# Altium schematic symbol library 691 321 300 0xx.SchLib: 23 symbols
Pins are listed as number, name and electrical type; pins without a type are passive.

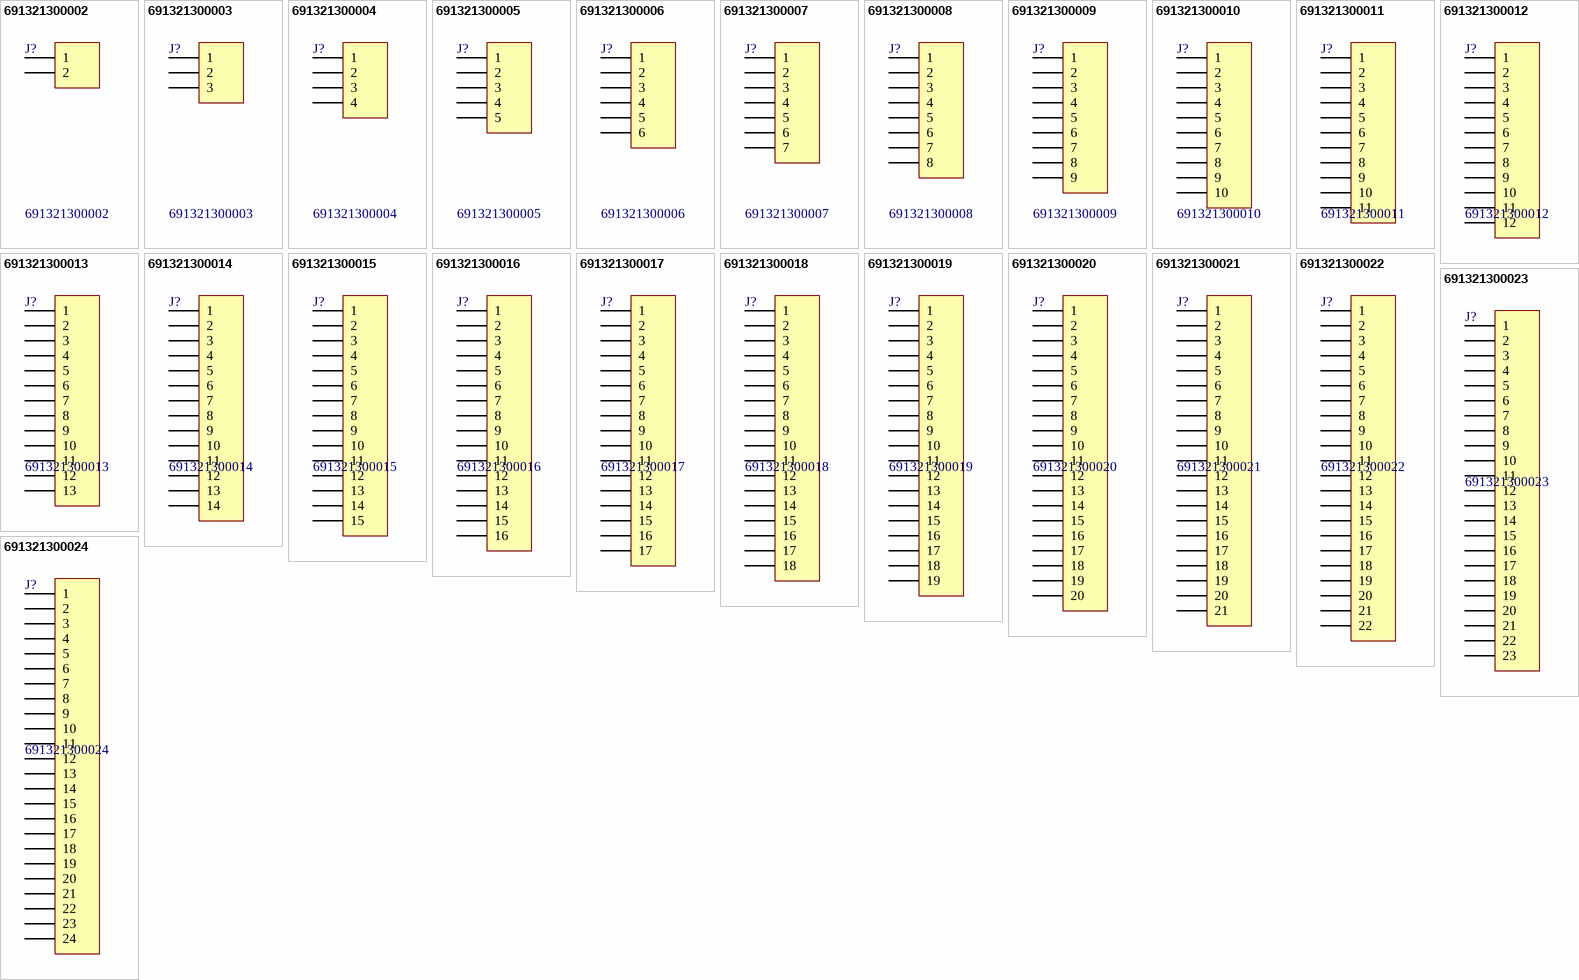
[diagram p0: symbols 691321300002 to 691321300024]

## 691321300002
designator J?
WR-TBL Terminal block - serie 3213- 3.81 mm; Manufacturer: Würth Elektronik eiSos GmbH; ComponentLink1 Description: Manufacturer; ComponentLink2 Description: Datasheet; NoPins: 2; Created Date: 11 December 2013; partNo: 691321300002; ComponentLink1URL: http://www.we-online.com; ComponentLink2URL: http://katalog.we-online.de/em/datasheet/6913213000xx.pdf; Created by: Karrer Zheng
footprint 691321300002 (3,81mm - PCB Headers - Vertical - 02p)
pins: 1, 2

## 691321300003
designator J?
WR-TBL Terminal block - serie 3213- 3.81 mm; Manufacturer: Würth Elektronik eiSos GmbH; ComponentLink1 Description: Manufacturer; ComponentLink2 Description: Datasheet; NoPins: 3; Created Date: 11 December 2013; partNo: 691321300003; ComponentLink1URL: http://www.we-online.com; ComponentLink2URL: http://katalog.we-online.de/em/datasheet/6913213000xx.pdf; Created by: Karrer Zheng
footprint 691321300003 (3,81mm - PCB Headers - Vertical - 03p)
pins: 1, 2, 3

## 691321300004
designator J?
WR-TBL Terminal block - serie 3213- 3.81 mm; Manufacturer: Würth Elektronik eiSos GmbH; ComponentLink1 Description: Manufacturer; ComponentLink2 Description: Datasheet; NoPins: 4; Created Date: 11 December 2013; partNo: 691321300004; ComponentLink1URL: http://www.we-online.com; ComponentLink2URL: http://katalog.we-online.de/em/datasheet/6913213000xx.pdf; Created by: Karrer Zheng
footprint 691321300004 (3,81mm - PCB Headers - Vertical - 04p)
pins: 1, 2, 3, 4

## 691321300005
designator J?
WR-TBL Terminal block - serie 3213- 3.81 mm; Manufacturer: Würth Elektronik eiSos GmbH; ComponentLink1 Description: Manufacturer; ComponentLink2 Description: Datasheet; NoPins: 5; Created Date: 11 December 2013; partNo: 691321300005; ComponentLink1URL: http://www.we-online.com; ComponentLink2URL: http://katalog.we-online.de/em/datasheet/6913213000xx.pdf; Created by: Karrer Zheng
footprint 691321300005 (3,81mm - PCB Headers - Vertical - 05p)
pins: 1, 2, 3, 4, 5

## 691321300006
designator J?
WR-TBL Terminal block - serie 3213- 3.81 mm; Manufacturer: Würth Elektronik eiSos GmbH; ComponentLink1 Description: Manufacturer; ComponentLink2 Description: Datasheet; NoPins: 6; Created Date: 11 December 2013; partNo: 691321300006; ComponentLink1URL: http://www.we-online.com; ComponentLink2URL: http://katalog.we-online.de/em/datasheet/6913213000xx.pdf; Created by: Karrer Zheng
footprint 691321300006 (3,81mm - PCB Headers - Vertical - 06p)
pins: 1, 2, 3, 4, 5, 6

## 691321300007
designator J?
WR-TBL Terminal block - serie 3213- 3.81 mm; Manufacturer: Würth Elektronik eiSos GmbH; ComponentLink1 Description: Manufacturer; ComponentLink2 Description: Datasheet; NoPins: 7; Created Date: 11 December 2013; partNo: 691321300007; ComponentLink1URL: http://www.we-online.com; ComponentLink2URL: http://katalog.we-online.de/em/datasheet/6913213000xx.pdf; Created by: Karrer Zheng
footprint 691321300007 (3,81mm - PCB Headers - Vertical - 07p)
pins: 1, 2, 3, 4, 5, 6, 7

## 691321300008
designator J?
WR-TBL Terminal block - serie 3213- 3.81 mm; Manufacturer: Würth Elektronik eiSos GmbH; ComponentLink1 Description: Manufacturer; ComponentLink2 Description: Datasheet; NoPins: 8; Created Date: 11 December 2013; partNo: 691321300008; ComponentLink1URL: http://www.we-online.com; ComponentLink2URL: http://katalog.we-online.de/em/datasheet/6913213000xx.pdf; Created by: Karrer Zheng
footprint 691321300008 (3,81mm - PCB Headers - Vertical - 08p)
pins: 1, 2, 3, 4, 5, 6, 7, 8

## 691321300009
designator J?
WR-TBL Terminal block - serie 3213- 3.81 mm; Manufacturer: Würth Elektronik eiSos GmbH; ComponentLink1 Description: Manufacturer; ComponentLink2 Description: Datasheet; NoPins: 9; Created Date: 11 December 2013; partNo: 691321300009; ComponentLink1URL: http://www.we-online.com; ComponentLink2URL: http://katalog.we-online.de/em/datasheet/6913213000xx.pdf; Created by: Karrer Zheng
footprint 691321300009 (3,81mm - PCB Headers - Vertical - 09p)
pins: 1, 2, 3, 4, 5, 6, 7, 8, 9

## 691321300010
designator J?
WR-TBL Terminal block - serie 3213- 3.81 mm; Manufacturer: Würth Elektronik eiSos GmbH; ComponentLink1 Description: Manufacturer; ComponentLink2 Description: Datasheet; NoPins: 10; Created Date: 11 December 2013; partNo: 691321300010; ComponentLink1URL: http://www.we-online.com; ComponentLink2URL: http://katalog.we-online.de/em/datasheet/6913213000xx.pdf; Created by: Karrer Zheng
footprint 691321300010 (3,81mm - PCB Headers - Vertical - 10p)
pins: 1, 2, 3, 4, 5, 6, 7, 8, 9, 10

## 691321300011
designator J?
WR-TBL Terminal block - serie 3213- 3.81 mm; Manufacturer: Würth Elektronik eiSos GmbH; ComponentLink1 Description: Manufacturer; ComponentLink2 Description: Datasheet; NoPins: 11; Created Date: 11 December 2013; partNo: 691321300011; ComponentLink1URL: http://www.we-online.com; ComponentLink2URL: http://katalog.we-online.de/em/datasheet/6913213000xx.pdf; Created by: Karrer Zheng
footprint 691321300011 (3,81mm - PCB Headers - Vertical - 11p)
pins: 1, 2, 3, 4, 5, 6, 7, 8, 9, 10, 11

## 691321300012
designator J?
WR-TBL Terminal block - serie 3213- 3.81 mm; Manufacturer: Würth Elektronik eiSos GmbH; ComponentLink1 Description: Manufacturer; ComponentLink2 Description: Datasheet; NoPins: 12; Created Date: 11 December 2013; partNo: 691321300012; ComponentLink1URL: http://www.we-online.com; ComponentLink2URL: http://katalog.we-online.de/em/datasheet/6913213000xx.pdf; Created by: Karrer Zheng
footprint 691321300012 (3,81mm - PCB Headers - Vertical - 12p)
pins: 1, 2, 3, 4, 5, 6, 7, 8, 9, 10, 11, 12

## 691321300013
designator J?
WR-TBL Terminal block - serie 3213- 3.81 mm; Manufacturer: Würth Elektronik eiSos GmbH; ComponentLink1 Description: Manufacturer; ComponentLink2 Description: Datasheet; NoPins: 13; Created Date: 11 December 2013; partNo: 691321300013; ComponentLink1URL: http://www.we-online.com; ComponentLink2URL: http://katalog.we-online.de/em/datasheet/6913213000xx.pdf; Created by: Karrer Zheng
footprint 691321300013 (3,81mm - PCB Headers - Vertical - 13p)
pins: 1, 2, 3, 4, 5, 6, 7, 8, 9, 10, 11, 12, 13

## 691321300014
designator J?
WR-TBL Terminal block - serie 3213- 3.81 mm; Manufacturer: Würth Elektronik eiSos GmbH; ComponentLink1 Description: Manufacturer; ComponentLink2 Description: Datasheet; NoPins: 14; Created Date: 11 December 2013; partNo: 691321300014; ComponentLink1URL: http://www.we-online.com; ComponentLink2URL: http://katalog.we-online.de/em/datasheet/6913213000xx.pdf; Created by: Karrer Zheng
footprint 691321300014 (3,81mm - PCB Headers - Vertical - 14p)
pins: 1, 2, 3, 4, 5, 6, 7, 8, 9, 10, 11, 12, 13, 14

## 691321300015
designator J?
WR-TBL Terminal block - serie 3213- 3.81 mm; Manufacturer: Würth Elektronik eiSos GmbH; ComponentLink1 Description: Manufacturer; ComponentLink2 Description: Datasheet; NoPins: 15; Created Date: 11 December 2013; partNo: 691321300015; ComponentLink1URL: http://www.we-online.com; ComponentLink2URL: http://katalog.we-online.de/em/datasheet/6913213000xx.pdf; Created by: Karrer Zheng
footprint 691321300015 (3,81mm - PCB Headers - Vertical - 15p)
pins: 1, 2, 3, 4, 5, 6, 7, 8, 9, 10, 11, 12, 13, 14, 15

## 691321300016
designator J?
WR-TBL Terminal block - serie 3213- 3.81 mm; Manufacturer: Würth Elektronik eiSos GmbH; ComponentLink1 Description: Manufacturer; ComponentLink2 Description: Datasheet; NoPins: 16; Created Date: 11 December 2013; partNo: 691321300016; ComponentLink1URL: http://www.we-online.com; ComponentLink2URL: http://katalog.we-online.de/em/datasheet/6913213000xx.pdf; Created by: Karrer Zheng
footprint 691321300016 (3,81mm - PCB Headers - Vertical - 16p)
pins: 1, 2, 3, 4, 5, 6, 7, 8, 9, 10, 11, 12, 13, 14, 15, 16

## 691321300017
designator J?
WR-TBL Terminal block - serie 3213- 3.81 mm; Manufacturer: Würth Elektronik eiSos GmbH; ComponentLink1 Description: Manufacturer; ComponentLink2 Description: Datasheet; NoPins: 17; Created Date: 11 December 2013; partNo: 691321300017; ComponentLink1URL: http://www.we-online.com; ComponentLink2URL: http://katalog.we-online.de/em/datasheet/6913213000xx.pdf; Created by: Karrer Zheng
footprint 691321300017 (3,81mm - PCB Headers - Vertical - 17p)
pins: 1, 2, 3, 4, 5, 6, 7, 8, 9, 10, 11, 12, 13, 14, 15, 16, 17

## 691321300018
designator J?
WR-TBL Terminal block - serie 3213- 3.81 mm; Manufacturer: Würth Elektronik eiSos GmbH; ComponentLink1 Description: Manufacturer; ComponentLink2 Description: Datasheet; NoPins: 18; Created Date: 11 December 2013; partNo: 691321300018; ComponentLink1URL: http://www.we-online.com; ComponentLink2URL: http://katalog.we-online.de/em/datasheet/6913213000xx.pdf; Created by: Karrer Zheng
footprint 691321300018 (3,81mm - PCB Headers - Vertical - 18p)
pins: 1, 2, 3, 4, 5, 6, 7, 8, 9, 10, 11, 12, 13, 14, 15, 16, 17, 18

## 691321300019
designator J?
WR-TBL Terminal block - serie 3213- 3.81 mm; Manufacturer: Würth Elektronik eiSos GmbH; ComponentLink1 Description: Manufacturer; ComponentLink2 Description: Datasheet; NoPins: 19; Created Date: 11 December 2013; partNo: 691321300019; ComponentLink1URL: http://www.we-online.com; ComponentLink2URL: http://katalog.we-online.de/em/datasheet/6913213000xx.pdf; Created by: Karrer Zheng
footprint 691321300019 (3,81mm - PCB Headers - Vertical - 19p)
pins: 1, 2, 3, 4, 5, 6, 7, 8, 9, 10, 11, 12, 13, 14, 15, 16, 17, 18, 19

## 691321300020
designator J?
WR-TBL Terminal block - serie 3213- 3.81 mm; Manufacturer: Würth Elektronik eiSos GmbH; ComponentLink1 Description: Manufacturer; ComponentLink2 Description: Datasheet; NoPins: 20; Created Date: 11 December 2013; partNo: 691321300020; ComponentLink1URL: http://www.we-online.com; ComponentLink2URL: http://katalog.we-online.de/em/datasheet/6913213000xx.pdf; Created by: Karrer Zheng
footprint 691321300020 (3,81mm - PCB Headers - Vertical - 20p)
pins: 1, 2, 3, 4, 5, 6, 7, 8, 9, 10, 11, 12, 13, 14, 15, 16, 17, 18, 19, 20

## 691321300021
designator J?
WR-TBL Terminal block - serie 3213- 3.81 mm; Manufacturer: Würth Elektronik eiSos GmbH; ComponentLink1 Description: Manufacturer; ComponentLink2 Description: Datasheet; NoPins: 21; Created Date: 11 December 2013; partNo: 691321300021; ComponentLink1URL: http://www.we-online.com; ComponentLink2URL: http://katalog.we-online.de/em/datasheet/6913213000xx.pdf; Created by: Karrer Zheng
footprint 691321300021 (3,81mm - PCB Headers - Vertical - 21p)
pins: 1, 2, 3, 4, 5, 6, 7, 8, 9, 10, 11, 12, 13, 14, 15, 16, 17, 18, 19, 20, 21

## 691321300022
designator J?
WR-TBL Terminal block - serie 3213- 3.81 mm; Manufacturer: Würth Elektronik eiSos GmbH; ComponentLink1 Description: Manufacturer; ComponentLink2 Description: Datasheet; NoPins: 22; Created Date: 11 December 2013; partNo: 691321300022; ComponentLink1URL: http://www.we-online.com; ComponentLink2URL: http://katalog.we-online.de/em/datasheet/6913213000xx.pdf; Created by: Karrer Zheng
footprint 691321300022 (3,81mm - PCB Headers - Vertical - 22p)
pins: 1, 2, 3, 4, 5, 6, 7, 8, 9, 10, 11, 12, 13, 14, 15, 16, 17, 18, 19, 20, 21, 22

## 691321300023
designator J?
WR-TBL Terminal block - serie 3213- 3.81 mm; Manufacturer: Würth Elektronik eiSos GmbH; ComponentLink1 Description: Manufacturer; ComponentLink2 Description: Datasheet; NoPins: 23; Created Date: 11 December 2013; partNo: 691321300023; ComponentLink1URL: http://www.we-online.com; ComponentLink2URL: http://katalog.we-online.de/em/datasheet/6913213000xx.pdf; Created by: Karrer Zheng
footprint 691321300023 (3,81mm - PCB Headers - Vertical - 23p)
pins: 1, 2, 3, 4, 5, 6, 7, 8, 9, 10, 11, 12, 13, 14, 15, 16, 17, 18, 19, 20, 21, 22, 23

## 691321300024
designator J?
WR-TBL Terminal block - serie 3213- 3.81 mm; Manufacturer: Würth Elektronik eiSos GmbH; ComponentLink1 Description: Manufacturer; ComponentLink2 Description: Datasheet; NoPins: 24; Created Date: 11 December 2013; partNo: 691321300024; ComponentLink1URL: http://www.we-online.com; ComponentLink2URL: http://katalog.we-online.de/em/datasheet/6913213000xx.pdf; Created by: Karrer Zheng
footprint 691321300024 (3,81mm - PCB Headers - Vertical - 24p)
pins: 1, 2, 3, 4, 5, 6, 7, 8, 9, 10, 11, 12, 13, 14, 15, 16, 17, 18, 19, 20, 21, 22, 23, 24